# Altium footprint library 1825264-2.PcbLib: 1 footprints
Each footprint in its own frame and in the unit in brackets; x right, y up, seen from the top. Pads: shape width x height; smd on the part's side, far side on the other; paste and mask are expansions set on the pad; w line width, h text height; cw(c..) or ccw(c..) is an arc to the next point about the centre after c.
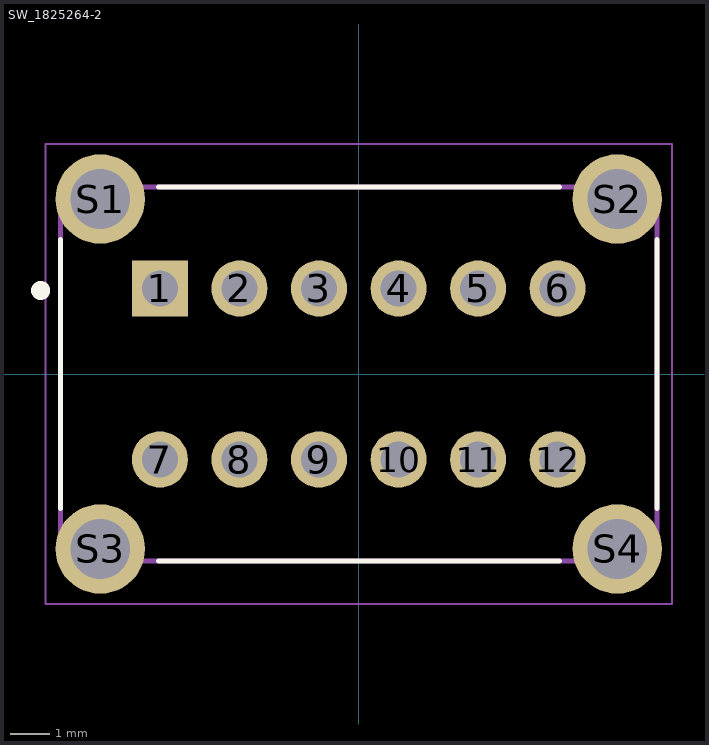
[diagram p0: the footprint, top view; thin cyan lines are the x and y axes]

## SW_1825264-2 [mm]
pads (16):
  rect 1.408x1.408 hole 0.9: 1(-5,2.15)
  round 1.408 hole 0.9: 2(-3,2.15) 3(-1,2.15) 4(1,2.15) 5(3,2.15) 6(5,2.15) 7(-5,-2.15) 8(-3,-2.15) 9(-1,-2.15) 10(1,-2.15) 11(3,-2.15) 12(5,-2.15)
  round 2.25 hole 1.5: S1(-6.5,4.4) S2(6.5,4.4) S3(-6.5,-4.4) S4(6.5,-4.4)
Top Overlay:
  circle w0.24: c-8,2.1 r0.12
  lines w0.127: -7.5,-3.38 -7.5,3.38 ; -5.04,-4.7 5.04,-4.7 ; -5.04,4.7 5.04,4.7 ; 7.5,-3.38 7.5,3.38
Mechanical 13:
  lines w0.127: -7.5,-4.7 7.5,-4.7 7.5,4.7 -7.5,4.7 -7.5,-4.7
Mechanical 15:
  lines w0.05: -7.88,-5.78 7.88,-5.78 7.88,5.78 -7.88,5.78 -7.88,-5.78